# Altium schematic symbol library Конденсаторы.SchLib: 6 symbols
Pins are listed as number, name and electrical type; pins without a type are passive.

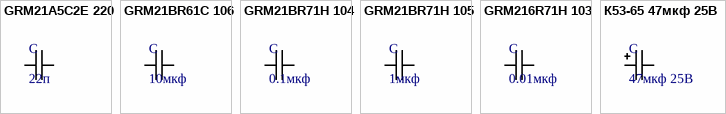
[diagram p0: symbols GRM21A5C2E 220 to К53-65 47мкф 25В]

## GRM21A5C2E 220
designator С, comment 22п
22пФ C0G 250B 5% 0805, GRM21A5C2E220J
footprint C0805 (Chip Capacitor)
pins: 1, 2

## GRM21BR61C 106
designator С, comment 10мкф
10 мкФ X5R 16В 10% 0805, GRM21BR61C106K
footprint C0805 (Chip Capacitor)
pins: 1, 2

## GRM21BR71H 104
designator С, comment 0.1мкф
0.1 мкФ X7R 50В 10% 0805, GRM21BR71H104KA01L
footprint C0805 (Chip Capacitor)
pins: 1, 2

## GRM21BR71H 105
designator С, comment 1мкф
1мкФ +10% 50В 0805, GRM21BR71H105KA12L,
footprint C0805 (Chip Capacitor)
pins: 1, 2

## GRM216R71H 103
designator С, comment 0.01мкф
0.01 мкФ X7R 50В 10% 0805, GRM216R71H103K
footprint C0805 (Chip Capacitor)
pins: 1, 2

## К53-65 47мкф 25В
designator С, comment 47мкф 25В
К53-65 47мкф 25В, АЖЯР.673546.004 ТУ
footprint C К53-65 E (Chip Capacitor, 7.3±0.3 4.3±0.3 4.1±0.3 1.3±0.3 2.4±0.1)
pins: 1, 2